# Altium integrated library NSC Switcher.IntLib: 922 symbols (part 10 of 24)
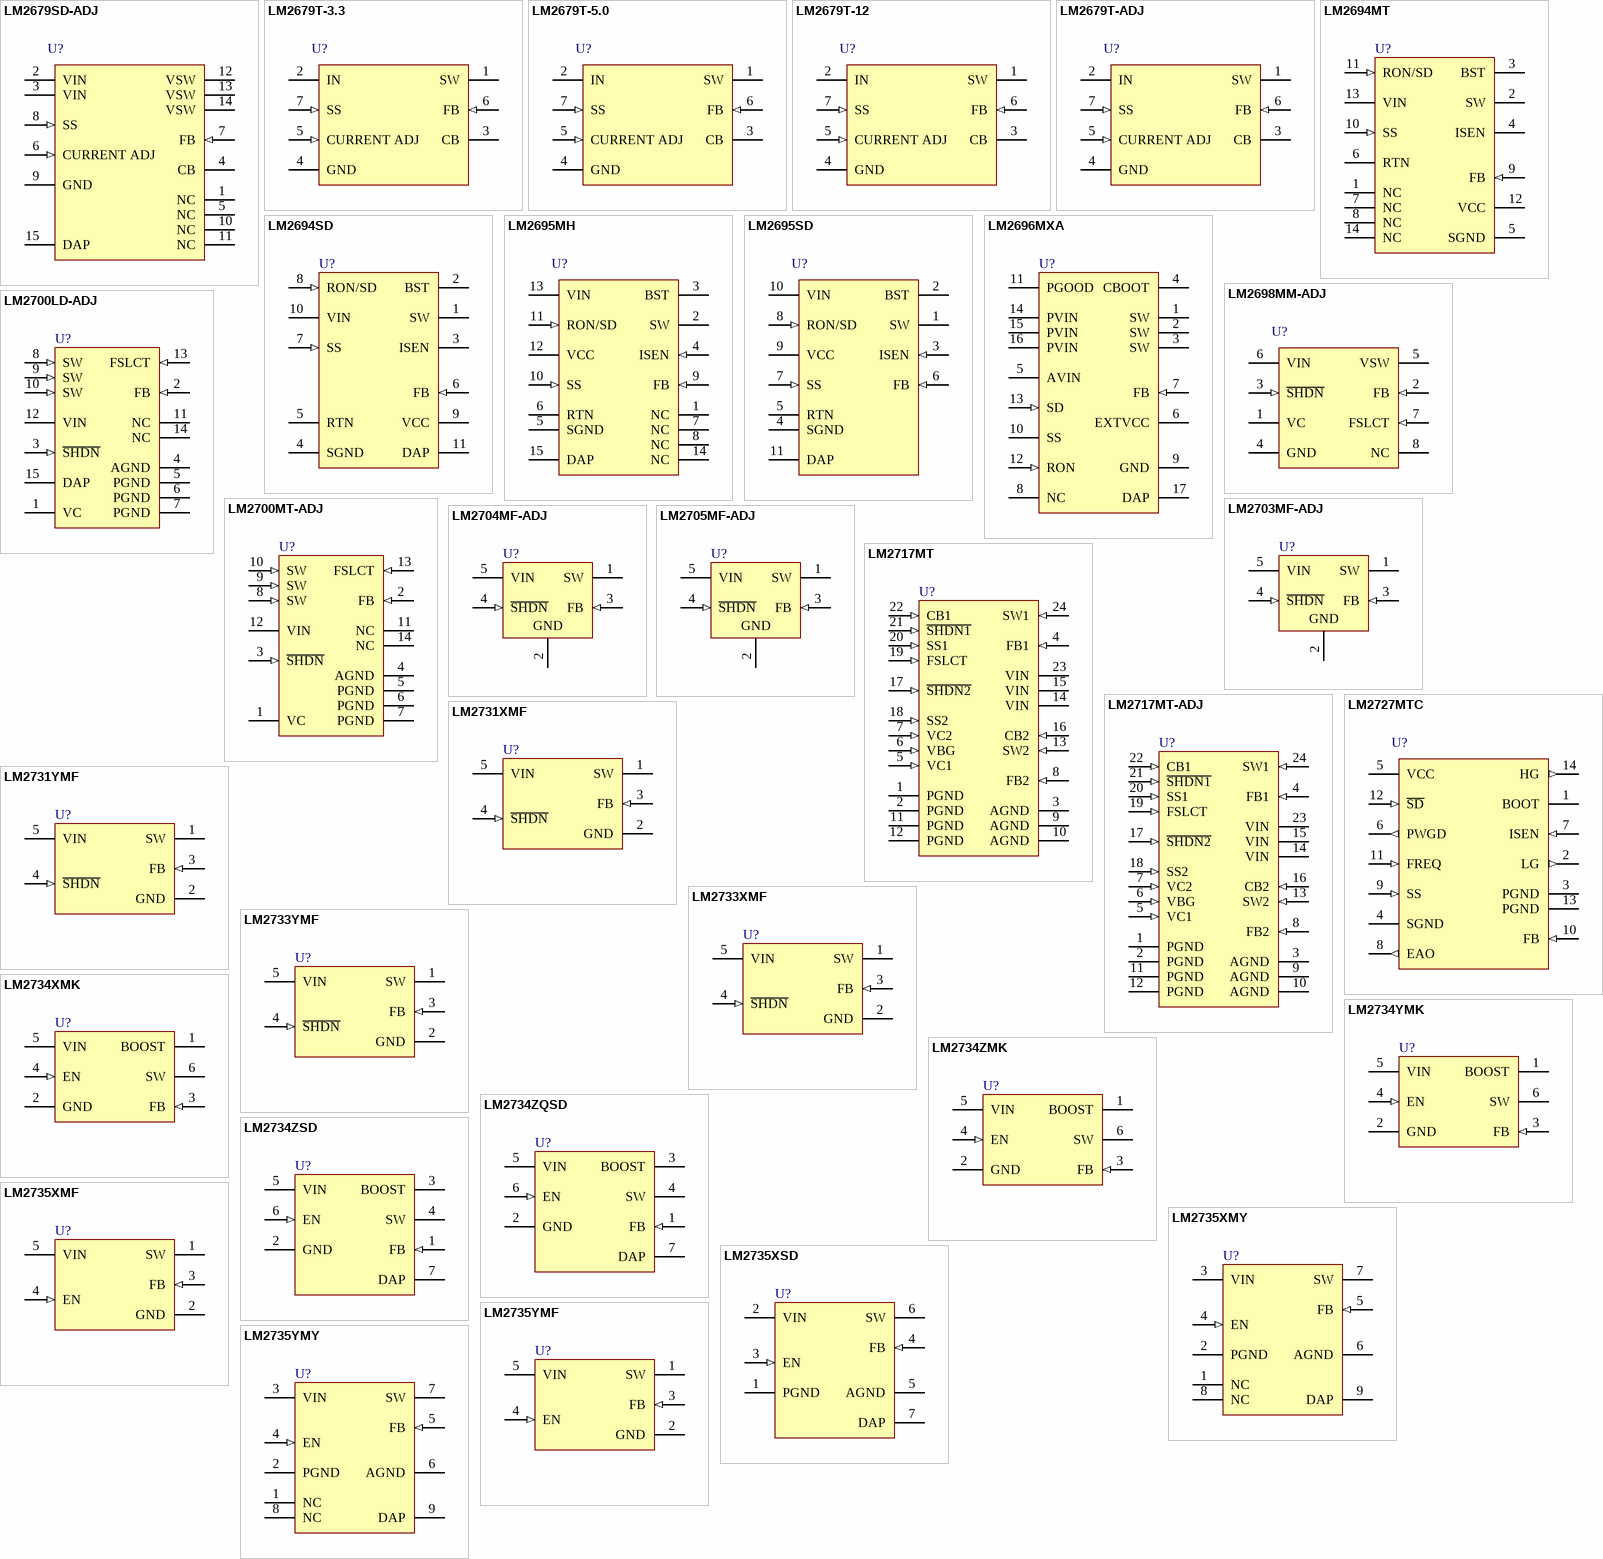
[diagram p37: symbols LM2679SD-ADJ to LM2735YMY]

## LM2734XMK
designator U?
Thin SOT23 1A Load Step-Down DC-DC Regulator; PartNumber: LM2734XMK; Manufacturer: National Semiconductor; CompType: Switcher; PackageTopMarking: SFDB*XTT; PowerWise: N; FirstPublished: 4-Dec-2008; DatasheetVersion: Jun-2008; PackageVersion: revD, Jul-2005; PackageReference: MK06A; Publisher: Altium Limited; PackageDescription: Molded TSOT, 2.97 x 1.65 x 0.87mm Body, 6 Lead, 0.95mm Pitch; RoHS: Y; PinCount: 6; DigiKeyPartNumber: LM2734XMKCT-ND; Code_JEDEC: MO-193-AA; Code_IPC: SOT26A-6; ComponentLink1Description: LM2734 Datasheet; ComponentLink1URL: http://www.national.com/ds/LM/LM2734.pdf; ComponentLink2Description: LM2734 Web Page; ComponentLink2URL: http://www.national.com/pf/LM/LM2734.html; ComponentLink3Description: MK06A Package Page; ComponentLink3URL: http://www.national.com/packaging/folders/mk06a.html
footprint MK06A_N (SOT23, 6-Leads, Body 3.0x1.7mm, Pitch 0.95mm, Lead Span 2.9mm, IPC Medium Density)
footprint MK06A_L (SOT23, 6-Leads, Body 3.0x1.7mm, Pitch 0.95mm, Lead Span 2.9mm, IPC High Density)
footprint MK06A_M (SOT23, 6-Leads, Body 3.0x1.7mm, Pitch 0.95mm, Lead Span 2.9mm, IPC Low Density)
pins: 1 BOOST, 2 GND (power), 3 FB (in), 4 EN (in), 5 VIN (power), 6 SW (power)

## LM2734YMK
designator U?
Thin SOT23 1A Load Step-Down DC-DC Regulator; PartNumber: LM2734YMK; Manufacturer: National Semiconductor; CompType: Switcher; PackageTopMarking: SFEB*XTT; PowerWise: N; FirstPublished: 4-Dec-2008; DatasheetVersion: Jun-2008; PackageVersion: revD, Jul-2005; PackageReference: MK06A; Publisher: Altium Limited; PackageDescription: Molded TSOT, 2.97 x 1.65 x 0.87mm Body, 6 Lead, 0.95mm Pitch; RoHS: O; PinCount: 6; DigiKeyPartNumber: LM2734YMKCT-ND; Code_JEDEC: MO-193-AA; Code_IPC: SOT26A-6; ComponentLink1Description: LM2734 Datasheet; ComponentLink1URL: http://www.national.com/ds/LM/LM2734.pdf; ComponentLink2Description: LM2734 Web Page; ComponentLink2URL: http://www.national.com/pf/LM/LM2734.html; ComponentLink3Description: MK06A Package Page; ComponentLink3URL: http://www.national.com/packaging/folders/mk06a.html
footprint MK06A_N (SOT23, 6-Leads, Body 3.0x1.7mm, Pitch 0.95mm, Lead Span 2.9mm, IPC Medium Density)
footprint MK06A_L (SOT23, 6-Leads, Body 3.0x1.7mm, Pitch 0.95mm, Lead Span 2.9mm, IPC High Density)
footprint MK06A_M (SOT23, 6-Leads, Body 3.0x1.7mm, Pitch 0.95mm, Lead Span 2.9mm, IPC Low Density)
pins: 1 BOOST, 2 GND (power), 3 FB (in), 4 EN (in), 5 VIN (power), 6 SW (power)

## LM2734ZMK
designator U?
Thin SOT23 1A Load Step-Down DC-DC Regulator; PartNumber: LM2734ZMK; Manufacturer: National Semiconductor; CompType: Switcher; PackageTopMarking: SFTB*XTT; PowerWise: N; FirstPublished: 4-Dec-2008; DatasheetVersion: Jun-2008; PackageVersion: revD, Jul-2005; PackageReference: MK06A; Publisher: Altium Limited; PackageDescription: Molded TSOT, 2.97 x 1.65 x 0.87mm Body, 6 Lead, 0.95mm Pitch; RoHS: Y; PinCount: 6; DigiKeyPartNumber: LM2734ZMKCT-ND; Code_JEDEC: MO-193-AA; Code_IPC: SOT26A-6; ComponentLink1Description: LM2734Z Datasheet; ComponentLink1URL: http://www.national.com/ds/LM/LM2734Z.pdf; ComponentLink2Description: LM2734Z Web Page; ComponentLink2URL: http://www.national.com/pf/LM/LM2734Z.html; ComponentLink3Description: MK06A Package Page; ComponentLink3URL: http://www.national.com/packaging/folders/mk06a.html
footprint MK06A_N (SOT23, 6-Leads, Body 3.0x1.7mm, Pitch 0.95mm, Lead Span 2.9mm, IPC Medium Density)
footprint MK06A_L (SOT23, 6-Leads, Body 3.0x1.7mm, Pitch 0.95mm, Lead Span 2.9mm, IPC High Density)
footprint MK06A_M (SOT23, 6-Leads, Body 3.0x1.7mm, Pitch 0.95mm, Lead Span 2.9mm, IPC Low Density)
pins: 1 BOOST, 2 GND (power), 3 FB (in), 4 EN (in), 5 VIN (power), 6 SW (power)

## LM2734ZQSD
designator U?
Thin SOT23 1A Load Step-Down DC-DC Regulator; PartNumber: LM2734ZQSD; Manufacturer: National Semiconductor; CompType: Switcher; PackageTopMarking: ZXYTT*L238B; PowerWise: N; FirstPublished: 4-Dec-2008; DatasheetVersion: Jun-2008; PackageVersion: revA, Jul-2003; PackageReference: SDE06A; Publisher: Altium Limited; PackageDescription: LLP, Plastic, Dual, 3 x 3 x 0.8mm Body, 6 Lead, 0.95mm Pitch, No Pullback; RoHS: Y; PinCount: 6; ComponentLink1Description: LM2734Z Datasheet; ComponentLink1URL: http://www.national.com/ds/LM/LM2734Z.pdf; ComponentLink2Description: LM2734Z Web Page; ComponentLink2URL: http://www.national.com/pf/LM/LM2734Z.html; ComponentLink3Description: SDE06A Package Page; ComponentLink3URL: http://www.national.com/packaging/folders/sde06a.html
footprint SDE06A_full (SON, 6-Leads, Body 3x3 mm, Pitch 0.95mm, Full Paste, NSC Recommended)
footprint SDE06A_quad (SON, 6-Leads, Body 3x3 mm, Pitch 0.95mm, Quad Paste, NSC Recommended)
pins: 1 FB (in), 2 GND (power), 3 BOOST, 4 SW (power), 5 VIN (power), 6 EN (in), 7 DAP (power)

## LM2734ZSD
designator U?
Thin SOT23 1A Load Step-Down DC-DC Regulator; PartNumber: LM2734ZSD; Manufacturer: National Semiconductor; CompType: Switcher; PackageTopMarking: ZXYTT*L163B; PowerWise: N; FirstPublished: 4-Dec-2008; DatasheetVersion: Jun-2008; PackageVersion: revA, Jul-2003; PackageReference: SDE06A; Publisher: Altium Limited; PackageDescription: LLP, Plastic, Dual, 3 x 3 x 0.8mm Body, 6 Lead, 0.95mm Pitch, No Pullback; RoHS: Y; PinCount: 6; DigiKeyPartNumber: LM2734ZSDCT-ND; ComponentLink1Description: LM2734Z Datasheet; ComponentLink1URL: http://www.national.com/ds/LM/LM2734Z.pdf; ComponentLink2Description: LM2734Z Web Page; ComponentLink2URL: http://www.national.com/pf/LM/LM2734Z.html; ComponentLink3Description: SDE06A Package Page; ComponentLink3URL: http://www.national.com/packaging/folders/sde06a.html
footprint SDE06A_full (SON, 6-Leads, Body 3x3 mm, Pitch 0.95mm, Full Paste, NSC Recommended)
footprint SDE06A_quad (SON, 6-Leads, Body 3x3 mm, Pitch 0.95mm, Quad Paste, NSC Recommended)
pins: 1 FB (in), 2 GND (power), 3 BOOST, 4 SW (power), 5 VIN (power), 6 EN (in), 7 DAP (power)

## LM2735XMF
designator U?
520kHz/1.6MHz - Space-Efficient Boost and SEPIC DC-DC Regulator; PartNumber: LM2735XMF; Manufacturer: National Semiconductor; CompType: Switcher; PackageTopMarking: SLEB*XTT; PowerWise: N; FirstPublished: 4-Dec-2008; DatasheetVersion: Sep-2008; PackageVersion: revD, Aug-2008; PackageReference: MF05A; Publisher: Altium Limited; PackageDescription: Molded SOT-23, .115 x .063 x .040 in Body, 5 Lead, .0375 in Pitch; RoHS: Y; PinCount: 5; DigiKeyPartNumber: LM2735XMFCT-ND; ComponentLink1Description: LM2735 Datasheet; ComponentLink1URL: http://www.national.com/ds/LM/LM2735.pdf; ComponentLink2Description: LM2735 Web Page; ComponentLink2URL: http://www.national.com/pf/LM/LM2735.html; ComponentLink3Description: MF05A Package Page; ComponentLink3URL: http://www.national.com/packaging/folders/mf05a.html
footprint MF05A_N (SOT23, 5-Leads, Body 2.9x1.6mm, Pitch 0.95mm, Lead Span 2.8mm, IPC Medium Density)
footprint MF05A_L (SOT23, 5-Leads, Body 2.9x1.6mm, Pitch 0.95mm, Lead Span 2.8mm, IPC High Density)
footprint MF05A_M (SOT23, 5-Leads, Body 2.9x1.6mm, Pitch 0.95mm, Lead Span 2.8mm, IPC Low Density)
pins: 1 SW (power), 2 GND (power), 3 FB (in), 4 EN (in), 5 VIN (power)

## LM2735XMY
designator U?
520kHz/1.6MHz - Space-Efficient Boost and SEPIC DC-DC Regulator; PartNumber: LM2735XMY; Manufacturer: National Semiconductor; CompType: Switcher; PackageTopMarking: ZXTT*SRJB; PowerWise: N; FirstPublished: 4-Dec-2008; DatasheetVersion: Sep-2008; PackageVersion: revA, Nov-2003; PackageReference: MUY08A; Publisher: Altium Limited; PackageDescription: Molded Mini-SO, Exposed Pad, .118 x .118 x .034in Body, 8 Lead, .0256in Pitch; RoHS: Y; PinCount: 8; DigiKeyPartNumber: LM2735XMYCT-ND; Code_JEDEC: MO-187-AA; ComponentLink1Description: LM2735 Datasheet; ComponentLink1URL: http://www.national.com/ds/LM/LM2735.pdf; ComponentLink2Description: LM2735 Web Page; ComponentLink2URL: http://www.national.com/pf/LM/LM2735.html; ComponentLink3Description: MUY08A Package Page; ComponentLink3URL: http://www.national.com/packaging/folders/muy08a.html
footprint MUY08A_N (TSOP, 8-Leads, Body 3x3mm, Pitch 0.65mm, Exposed Pad, IPC Medium Density)
footprint MUY08A_L (TSOP, 8-Leads, Body 3x3mm, Pitch 0.65mm, Exposed Pad, IPC High Density)
footprint MUY08A_M (TSOP, 8-Leads, Body 3x3mm, Pitch 0.65mm, Exposed Pad, IPC Low Density)
pins: 1 NC, 2 PGND (power), 3 VIN (power), 4 EN (in), 5 FB (in), 6 AGND (power), 7 SW (power), 8 NC, 9 DAP (power)

## LM2735XSD
designator U?
520kHz/1.6MHz - Space-Efficient Boost and SEPIC DC-DC Regulator; PartNumber: LM2735XSD; Manufacturer: National Semiconductor; CompType: Switcher; PackageTopMarking: ZXYTT*2735X; PowerWise: N; FirstPublished: 4-Dec-2008; DatasheetVersion: Sep-2008; PackageVersion: revA, Jul-2003; PackageReference: SDE06A; Publisher: Altium Limited; PackageDescription: LLP, Plastic, Dual, 3 x 3 x 0.8mm Body, 6 Lead, 0.95mm Pitch, No Pullback; RoHS: Y; PinCount: 6; DigiKeyPartNumber: LM2735XSDCT-ND; ComponentLink1Description: LM2735 Datasheet; ComponentLink1URL: http://www.national.com/ds/LM/LM2735.pdf; ComponentLink2Description: LM2735 Web Page; ComponentLink2URL: http://www.national.com/pf/LM/LM2735.html; ComponentLink3Description: SDE06A Package Page; ComponentLink3URL: http://www.national.com/packaging/folders/sde06a.html
footprint SDE06A_full (SON, 6-Leads, Body 3x3 mm, Pitch 0.95mm, Full Paste, NSC Recommended)
footprint SDE06A_quad (SON, 6-Leads, Body 3x3 mm, Pitch 0.95mm, Quad Paste, NSC Recommended)
pins: 1 PGND (power), 2 VIN (power), 3 EN (in), 4 FB (in), 5 AGND (power), 6 SW (power), 7 DAP (power)

## LM2735YMF
designator U?
520kHz/1.6MHz - Space-Efficient Boost and SEPIC DC-DC Regulator; PartNumber: LM2735YMF; Manufacturer: National Semiconductor; CompType: Switcher; PackageTopMarking: SLFB*XTT; PowerWise: N; FirstPublished: 4-Dec-2008; DatasheetVersion: Sep-2008; PackageVersion: revD, Aug-2008; PackageReference: MF05A; Publisher: Altium Limited; PackageDescription: Molded SOT-23, .115 x .063 x .040 in Body, 5 Lead, .0375 in Pitch; RoHS: Y; PinCount: 5; DigiKeyPartNumber: LM2735YMFCT-ND; ComponentLink1Description: LM2735 Datasheet; ComponentLink1URL: http://www.national.com/ds/LM/LM2735.pdf; ComponentLink2Description: LM2735 Web Page; ComponentLink2URL: http://www.national.com/pf/LM/LM2735.html; ComponentLink3Description: MF05A Package Page; ComponentLink3URL: http://www.national.com/packaging/folders/mf05a.html
footprint MF05A_N (SOT23, 5-Leads, Body 2.9x1.6mm, Pitch 0.95mm, Lead Span 2.8mm, IPC Medium Density)
footprint MF05A_L (SOT23, 5-Leads, Body 2.9x1.6mm, Pitch 0.95mm, Lead Span 2.8mm, IPC High Density)
footprint MF05A_M (SOT23, 5-Leads, Body 2.9x1.6mm, Pitch 0.95mm, Lead Span 2.8mm, IPC Low Density)
pins: 1 SW (power), 2 GND (power), 3 FB (in), 4 EN (in), 5 VIN (power)

## LM2735YMY
designator U?
520kHz/1.6MHz - Space-Efficient Boost and SEPIC DC-DC Regulator; PartNumber: LM2735YMY; Manufacturer: National Semiconductor; CompType: Switcher; PackageTopMarking: ZXTT*SRKB; PowerWise: N; FirstPublished: 4-Dec-2008; DatasheetVersion: Sep-2008; PackageVersion: revA, Nov-2003; PackageReference: MUY08A; Publisher: Altium Limited; PackageDescription: Molded Mini-SO, Exposed Pad, .118 x .118 x .034in Body, 8 Lead, .0256in Pitch; RoHS: Y; PinCount: 8; DigiKeyPartNumber: LM2735YMYCT-ND; Code_JEDEC: MO-187-AA; ComponentLink1Description: LM2735 Datasheet; ComponentLink1URL: http://www.national.com/ds/LM/LM2735.pdf; ComponentLink2Description: LM2735 Web Page; ComponentLink2URL: http://www.national.com/pf/LM/LM2735.html; ComponentLink3Description: MUY08A Package Page; ComponentLink3URL: http://www.national.com/packaging/folders/muy08a.html
footprint MUY08A_N (TSOP, 8-Leads, Body 3x3mm, Pitch 0.65mm, Exposed Pad, IPC Medium Density)
footprint MUY08A_L (TSOP, 8-Leads, Body 3x3mm, Pitch 0.65mm, Exposed Pad, IPC High Density)
footprint MUY08A_M (TSOP, 8-Leads, Body 3x3mm, Pitch 0.65mm, Exposed Pad, IPC Low Density)
pins: 1 NC, 2 PGND (power), 3 VIN (power), 4 EN (in), 5 FB (in), 6 AGND (power), 7 SW (power), 8 NC, 9 DAP (power)

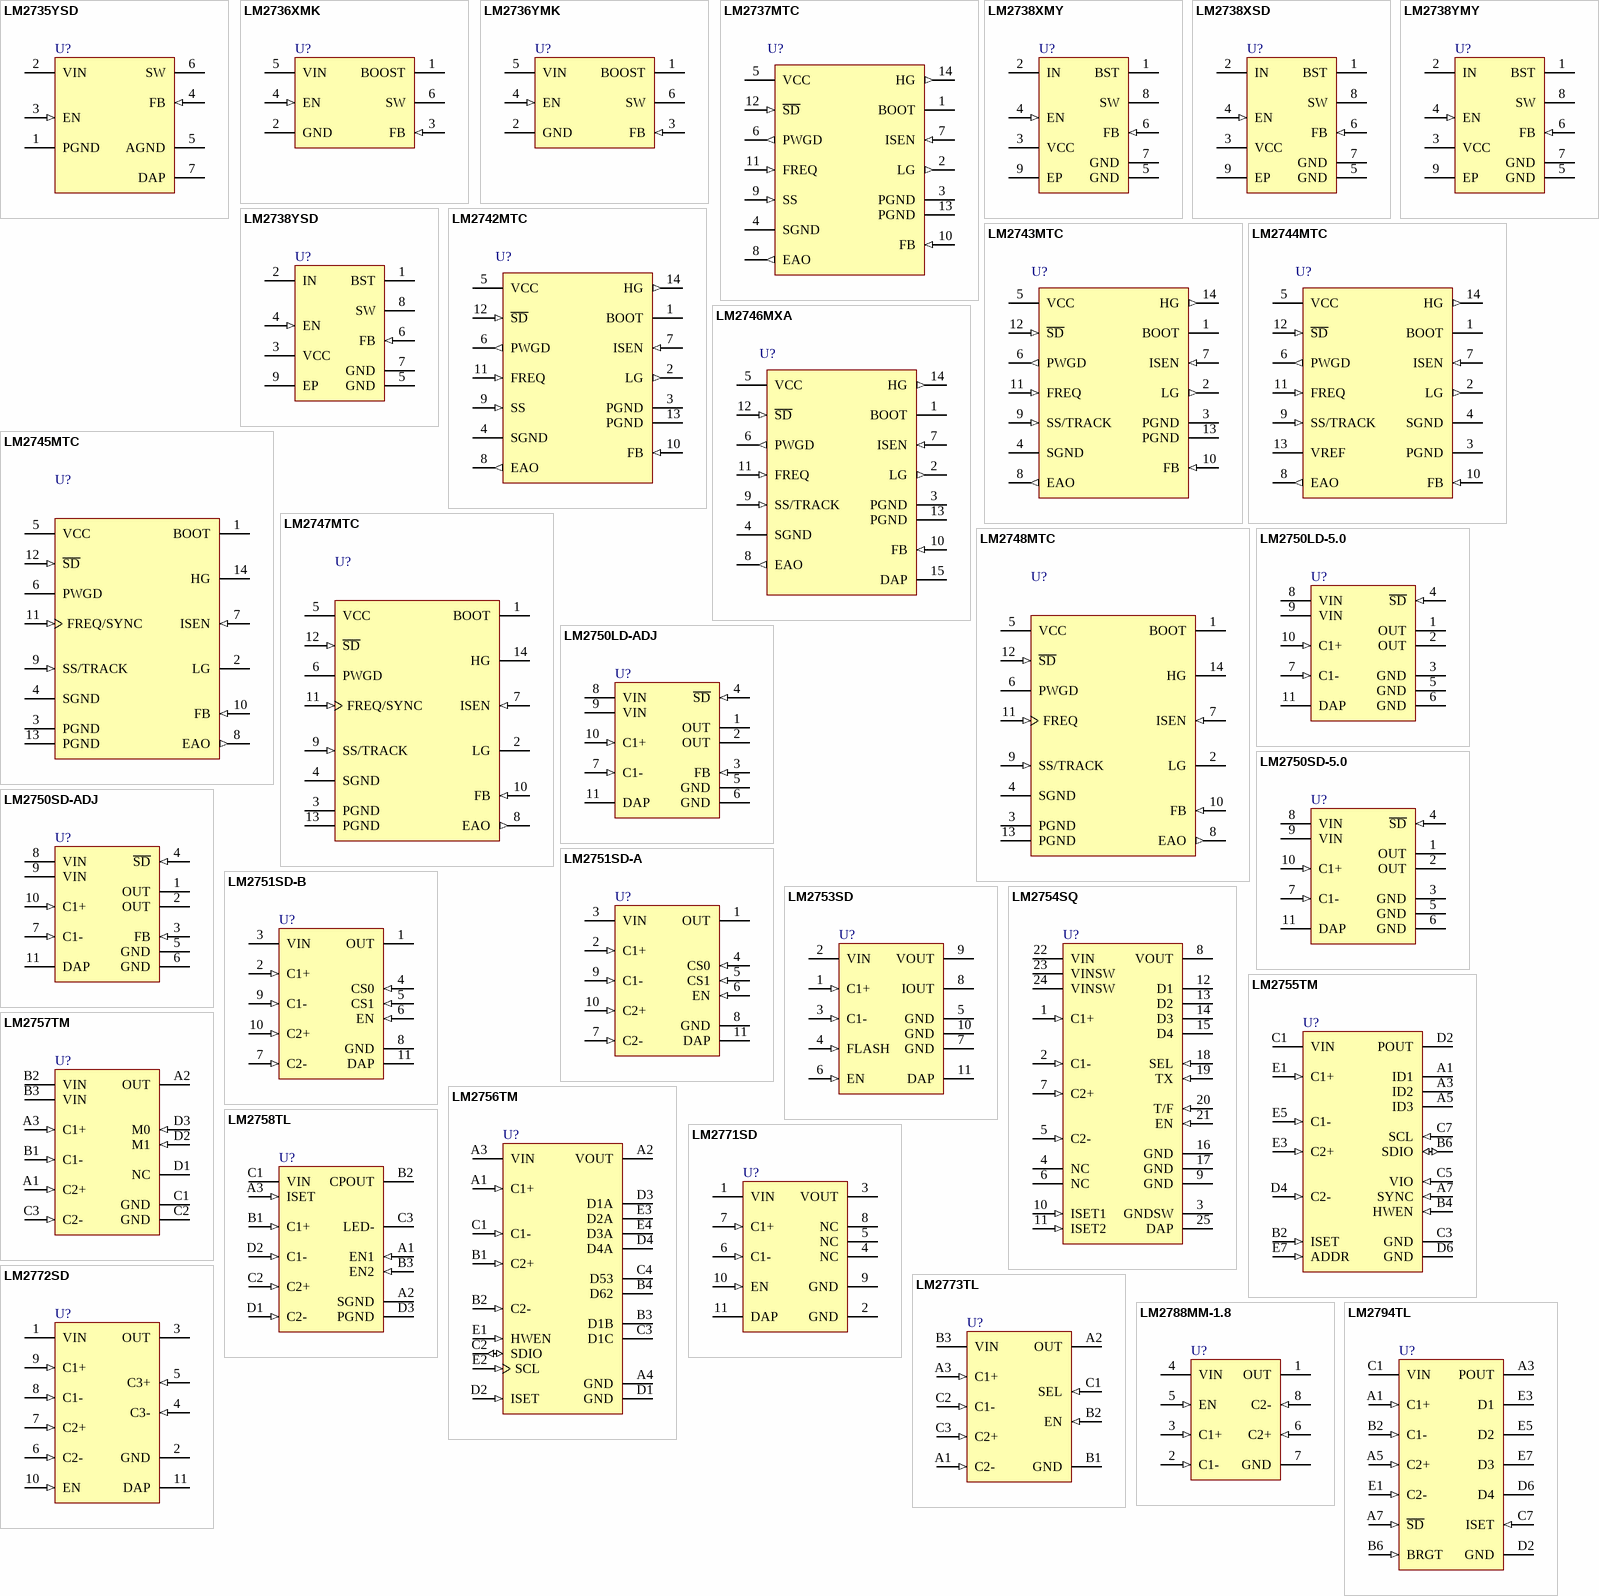
[diagram p11: symbols LM2735YSD to LM2794TL]

## LM2735YSD
designator U?
520kHz/1.6MHz - Space-Efficient Boost and SEPIC DC-DC Regulator; PartNumber: LM2735YSD; Manufacturer: National Semiconductor; CompType: Switcher; PackageTopMarking: ZXYTT*2735Y; PowerWise: N; FirstPublished: 4-Dec-2008; DatasheetVersion: Sep-2008; PackageVersion: revA, Jul-2003; PackageReference: SDE06A; Publisher: Altium Limited; PackageDescription: LLP, Plastic, Dual, 3 x 3 x 0.8mm Body, 6 Lead, 0.95mm Pitch, No Pullback; RoHS: Y; PinCount: 6; DigiKeyPartNumber: LM2735YSDCT-ND; ComponentLink1Description: LM2735 Datasheet; ComponentLink1URL: http://www.national.com/ds/LM/LM2735.pdf; ComponentLink2Description: LM2735 Web Page; ComponentLink2URL: http://www.national.com/pf/LM/LM2735.html; ComponentLink3Description: SDE06A Package Page; ComponentLink3URL: http://www.national.com/packaging/folders/sde06a.html
footprint SDE06A_full (SON, 6-Leads, Body 3x3 mm, Pitch 0.95mm, Full Paste, NSC Recommended)
footprint SDE06A_quad (SON, 6-Leads, Body 3x3 mm, Pitch 0.95mm, Quad Paste, NSC Recommended)
pins: 1 PGND (power), 2 VIN (power), 3 EN (in), 4 FB (in), 5 AGND (power), 6 SW (power), 7 DAP (power)

## LM2736XMK
designator U?
Thin SOT23 750mA Load Step-Down DC-DC Regulator; PartNumber: LM2736XMK; Manufacturer: National Semiconductor; CompType: Switcher; PackageTopMarking: SHAB*XTT; PowerWise: N; FirstPublished: 4-Dec-2008; DatasheetVersion: Jan-2005; PackageVersion: revD, Jul-2005; PackageReference: MK06A; Publisher: Altium Limited; PackageDescription: Molded TSOT, 2.97 x 1.65 x 0.87mm Body, 6 Lead, 0.95mm Pitch; RoHS: Y; PinCount: 6; DigiKeyPartNumber: LM2736XMKCT-ND; Code_JEDEC: MO-193-AA; Code_IPC: SOT26A-6; ComponentLink1Description: LM2736 Datasheet; ComponentLink1URL: http://www.national.com/ds/LM/LM2736.pdf; ComponentLink2Description: LM2736 Web Page; ComponentLink2URL: http://www.national.com/pf/LM/LM2736.html; ComponentLink3Description: MK06A Package Page; ComponentLink3URL: http://www.national.com/packaging/folders/mk06a.html
footprint MK06A_N (SOT23, 6-Leads, Body 3.0x1.7mm, Pitch 0.95mm, Lead Span 2.9mm, IPC Medium Density)
footprint MK06A_L (SOT23, 6-Leads, Body 3.0x1.7mm, Pitch 0.95mm, Lead Span 2.9mm, IPC High Density)
footprint MK06A_M (SOT23, 6-Leads, Body 3.0x1.7mm, Pitch 0.95mm, Lead Span 2.9mm, IPC Low Density)
pins: 1 BOOST, 2 GND (power), 3 FB (in), 4 EN (in), 5 VIN (power), 6 SW (power)

## LM2736YMK
designator U?
Thin SOT23 750mA Load Step-Down DC-DC Regulator; PartNumber: LM2736YMK; Manufacturer: National Semiconductor; CompType: Switcher; PackageTopMarking: SHBB*XTT; PowerWise: N; FirstPublished: 4-Dec-2008; DatasheetVersion: Jan-2005; PackageVersion: revD, Jul-2005; PackageReference: MK06A; Publisher: Altium Limited; PackageDescription: Molded TSOT, 2.97 x 1.65 x 0.87mm Body, 6 Lead, 0.95mm Pitch; RoHS: O; PinCount: 6; DigiKeyPartNumber: LM2736YMKCT-ND; Code_JEDEC: MO-193-AA; Code_IPC: SOT26A-6; ComponentLink1Description: LM2736 Datasheet; ComponentLink1URL: http://www.national.com/ds/LM/LM2736.pdf; ComponentLink2Description: LM2736 Web Page; ComponentLink2URL: http://www.national.com/pf/LM/LM2736.html; ComponentLink3Description: MK06A Package Page; ComponentLink3URL: http://www.national.com/packaging/folders/mk06a.html
footprint MK06A_N (SOT23, 6-Leads, Body 3.0x1.7mm, Pitch 0.95mm, Lead Span 2.9mm, IPC Medium Density)
footprint MK06A_L (SOT23, 6-Leads, Body 3.0x1.7mm, Pitch 0.95mm, Lead Span 2.9mm, IPC High Density)
footprint MK06A_M (SOT23, 6-Leads, Body 3.0x1.7mm, Pitch 0.95mm, Lead Span 2.9mm, IPC Low Density)
pins: 1 BOOST, 2 GND (power), 3 FB (in), 4 EN (in), 5 VIN (power), 6 SW (power)

## LM2737MTC
designator U?
N-Channel FET Synchronous Buck Regulator Controller for Low Output Voltages; PartNumber: LM2737MTC; Manufacturer: National Semiconductor; CompType: Switcher; PackageTopMarking: NSZXYTT*2737*MTC; PowerWise: N; FirstPublished: 4-Dec-2008; DatasheetVersion: Jun-2003; PackageVersion: revD, Jun-2003; PackageReference: MTC14; Publisher: Altium Limited; PackageDescription: Molded TSSOP, JEDEC, 5 x 4.4 x 0.9mm Body, 14 Lead, 0.65mm Pitch; RoHS: O; PinCount: 14; DigiKeyPartNumber: LM2737MTC-ND; Code_JEDEC: MO-153-AB-1; ComponentLink1Description: LM2737 Datasheet; ComponentLink1URL: http://www.national.com/ds/LM/LM2737.pdf; ComponentLink2Description: LM2737 Web Page; ComponentLink2URL: http://www.national.com/pf/LM/LM2737.html; ComponentLink3Description: MTC14 Package Page; ComponentLink3URL: http://www.national.com/packaging/folders/mtc14.html
footprint MTC14_N (TSOP, 14-Leads, Body 5x4.4mm, Pitch 0.65mm, IPC Medium Density)
footprint MTC14_L (TSOP, 14-Leads, Body 5x4.4mm, Pitch 0.65mm, IPC High Density)
footprint MTC14_M (TSOP, 14-Leads, Body 5x4.4mm, Pitch 0.65mm, IPC Low Density)
pins: 1 BOOT, 2 LG (out), 3 PGND (power), 4 SGND (power), 5 VCC (power), 6 PWGD (out), 7 ISEN (in), 8 EAO (out), 9 SS (in), 10 FB (in), 11 FREQ (in), 12 ~{SD} (in), 13 PGND (power), 14 HG (out)

## LM2738XMY
designator U?
550kHz/1.6MHz 1.5A Step-Down DC-DC Switching Regulator; PartNumber: LM2738XMY; Manufacturer: National Semiconductor; CompType: Switcher; PackageTopMarking: ZXTT*STDB; FirstPublished: 4-Dec-2008; DatasheetVersion: Apr-2008; PackageVersion: revA, Nov-2003; PackageReference: MUY08A; Publisher: Altium Limited; PackageDescription: Molded Mini-SO, Exposed Pad, .118 x .118 x .034in Body, 8 Lead, .0256in Pitch; RoHS: Y; PinCount: 8; DigiKeyPartNumber: LM2738XMYCT-ND; Code_JEDEC: MO-187-AA; ComponentLink1Description: LM2738 Datasheet; ComponentLink1URL: http://www.national.com/ds/LM/LM2738.pdf; ComponentLink2Description: LM2738 Web Page; ComponentLink2URL: http://www.national.com/pf/LM/LM2738.html; ComponentLink3Description: MUY08A Package Drawing; ComponentLink3URL: http://www.national.com/packaging/folders/muy08a.html
footprint MUY08A_N (TSOP, 8-Leads, Body 3x3mm, Pitch 0.65mm, Exposed Pad, IPC Medium Density)
footprint MUY08A_L (TSOP, 8-Leads, Body 3x3mm, Pitch 0.65mm, Exposed Pad, IPC High Density)
footprint MUY08A_M (TSOP, 8-Leads, Body 3x3mm, Pitch 0.65mm, Exposed Pad, IPC Low Density)
pins: 1 BST, 2 IN (power), 3 VCC (power), 4 EN (in), 5 GND (power), 6 FB (in), 7 GND (power), 8 SW (power), 9 EP (power)

## LM2738XSD
designator U?
550kHz/1.6MHz 1.5A Step-Down DC-DC Switching Regulator; PartNumber: LM2738XSD; Manufacturer: National Semiconductor; CompType: Switcher; PackageTopMarking: ZXYTT*L237B; FirstPublished: 4-Dec-2008; DatasheetVersion: Apr-2008; PackageVersion: revA, Aug-2003; PackageReference: SDA08A; Publisher: Altium Limited; PackageDescription: LLP, Plastic, Dual, 3 x 3 x 0.8mm Body, 8 Lead, 0.5mm Pitch, No Pullback; RoHS: Y; PinCount: 8; DigiKeyPartNumber: LM2738XSDCT-ND; ComponentLink1Description: LM2738 Datasheet; ComponentLink1URL: http://www.national.com/ds/LM/LM2738.pdf; ComponentLink2Description: LM2738 Web Page; ComponentLink2URL: http://www.national.com/pf/LM/LM2738.html; ComponentLink3Description: SDA08A Package Drawing; ComponentLink3URL: http://www.national.com/packaging/folders/sda08a.html
footprint SDA08A (SON, 8-Leads, Body 3x3mm, Pitch 0.5mm, NSC Recommended)
pins: 1 BST, 2 IN (power), 3 VCC (power), 4 EN (in), 5 GND (power), 6 FB (in), 7 GND (power), 8 SW (power), 9 EP (power)

## LM2738YMY
designator U?
550kHz/1.6MHz 1.5A Step-Down DC-DC Switching Regulator; PartNumber: LM2738YMY; Manufacturer: National Semiconductor; CompType: Switcher; PackageTopMarking: ZXTT*SJBB; FirstPublished: 4-Dec-2008; DatasheetVersion: Apr-2008; PackageVersion: revA, Nov-2003; PackageReference: MUY08A; Publisher: Altium Limited; PackageDescription: Molded Mini-SO, Exposed Pad, .118 x .118 x .034in Body, 8 Lead, .0256in Pitch; RoHS: Y; PinCount: 8; DigiKeyPartNumber: LM2738YMYCT-ND; Code_JEDEC: MO-187-AA; ComponentLink1Description: LM2738 Datasheet; ComponentLink1URL: http://www.national.com/ds/LM/LM2738.pdf; ComponentLink2Description: LM2738 Web Page; ComponentLink2URL: http://www.national.com/pf/LM/LM2738.html; ComponentLink3Description: MUY08A Package Drawing; ComponentLink3URL: http://www.national.com/packaging/folders/muy08a.html
footprint MUY08A_N (TSOP, 8-Leads, Body 3x3mm, Pitch 0.65mm, Exposed Pad, IPC Medium Density)
footprint MUY08A_L (TSOP, 8-Leads, Body 3x3mm, Pitch 0.65mm, Exposed Pad, IPC High Density)
footprint MUY08A_M (TSOP, 8-Leads, Body 3x3mm, Pitch 0.65mm, Exposed Pad, IPC Low Density)
pins: 1 BST, 2 IN (power), 3 VCC (power), 4 EN (in), 5 GND (power), 6 FB (in), 7 GND (power), 8 SW (power), 9 EP (power)

## LM2738YSD
designator U?
550kHz/1.6MHz 1.5A Step-Down DC-DC Switching Regulator; PartNumber: LM2738YSD; Manufacturer: National Semiconductor; CompType: Switcher; PackageTopMarking: ZXYTT*L174B; FirstPublished: 4-Dec-2008; DatasheetVersion: Apr-2008; PackageVersion: revA, Aug-2003; PackageReference: SDA08A; Publisher: Altium Limited; PackageDescription: LLP, Plastic, Dual, 3 x 3 x 0.8mm Body, 8 Lead, 0.5mm Pitch, No Pullback; RoHS: Y; PinCount: 8; DigiKeyPartNumber: LM2738YSDCT-ND; ComponentLink1Description: LM2738 Datasheet; ComponentLink1URL: http://www.national.com/ds/LM/LM2738.pdf; ComponentLink2Description: LM2738 Web Page; ComponentLink2URL: http://www.national.com/pf/LM/LM2738.html; ComponentLink3Description: SDA08A Package Drawing; ComponentLink3URL: http://www.national.com/packaging/folders/sda08a.html
footprint SDA08A (SON, 8-Leads, Body 3x3mm, Pitch 0.5mm, NSC Recommended)
pins: 1 BST, 2 IN (power), 3 VCC (power), 4 EN (in), 5 GND (power), 6 FB (in), 7 GND (power), 8 SW (power), 9 EP (power)

## LM2742MTC
designator U?
N-Channel FET Synchronous Buck Regulator Controller for Low Output Voltages; PartNumber: LM2742MTC; Manufacturer: National Semiconductor; CompType: Switcher; PackageTopMarking: NSZXYTT*2742*MTC; PowerWise: Y; FirstPublished: 4-Dec-2008; DatasheetVersion: Oct-2007; PackageVersion: revD, Jun-2003; PackageReference: MTC14; Publisher: Altium Limited; PackageDescription: Molded TSSOP, JEDEC, 5 x 4.4 x 0.9mm Body, 14 Lead, 0.65mm Pitch; RoHS: Y; PinCount: 14; DigiKeyPartNumber: LM2742MTC-ND; Code_JEDEC: MO-153-AB-1; ComponentLink1Description: LM2742 Datasheet; ComponentLink1URL: http://www.national.com/ds/LM/LM2742.pdf; ComponentLink2Description: LM2742 Web Page; ComponentLink2URL: http://www.national.com/pf/LM/LM2742.html; ComponentLink3Description: MTC14 Package Page; ComponentLink3URL: http://www.national.com/packaging/folders/mtc14.html
footprint MTC14_N (TSOP, 14-Leads, Body 5x4.4mm, Pitch 0.65mm, IPC Medium Density)
footprint MTC14_L (TSOP, 14-Leads, Body 5x4.4mm, Pitch 0.65mm, IPC High Density)
footprint MTC14_M (TSOP, 14-Leads, Body 5x4.4mm, Pitch 0.65mm, IPC Low Density)
pins: 1 BOOT, 2 LG (out), 3 PGND (power), 4 SGND (power), 5 VCC (power), 6 PWGD (out), 7 ISEN (in), 8 EAO (out), 9 SS (in), 10 FB (in), 11 FREQ (in), 12 ~{SD} (in), 13 PGND (power), 14 HG (out)

## LM2743MTC
designator U?
Low Voltage N-Channel MOSFET Synchronous Buck Regulator Controller; PartNumber: LM2743MTC; Manufacturer: National Semiconductor; CompType: Switcher; PackageTopMarking: NSZXYTT*2743*MTC; PowerWise: Y; FirstPublished: 4-Dec-2008; DatasheetVersion: Feb-2005; PackageVersion: revD, Jun-2003; PackageReference: MTC14; Publisher: Altium Limited; PackageDescription: Molded TSSOP, JEDEC, 5 x 4.4 x 0.9mm Body, 14 Lead, 0.65mm Pitch; RoHS: O; PinCount: 14; DigiKeyPartNumber: LM2743MTC-ND; Code_JEDEC: MO-153-AB-1; ComponentLink1Description: LM2743 Datasheet; ComponentLink1URL: http://www.national.com/ds/LM/LM2743.pdf; ComponentLink2Description: LM2743 Web Page; ComponentLink2URL: http://www.national.com/pf/LM/LM2743.html; ComponentLink3Description: MTC14 Package Page; ComponentLink3URL: http://www.national.com/packaging/folders/mtc14.html
footprint MTC14_N (TSOP, 14-Leads, Body 5x4.4mm, Pitch 0.65mm, IPC Medium Density)
footprint MTC14_L (TSOP, 14-Leads, Body 5x4.4mm, Pitch 0.65mm, IPC High Density)
footprint MTC14_M (TSOP, 14-Leads, Body 5x4.4mm, Pitch 0.65mm, IPC Low Density)
pins: 1 BOOT, 2 LG (out), 3 PGND (power), 4 SGND (power), 5 VCC (power), 6 PWGD (out), 7 ISEN (in), 8 EAO (out), 9 SS/TRACK (in), 10 FB (in), 11 FREQ (in), 12 ~{SD} (in), 13 PGND (power), 14 HG (out)

## LM2744MTC
designator U?
Low Voltage N-Channel MOSFET Synchronous Buck Regulator Controller with External Reference; PartNumber: LM2744MTC; Manufacturer: National Semiconductor; CompType: Switcher; PackageTopMarking: NSZXYTT*2744*MTC; PowerWise: Y; FirstPublished: 4-Dec-2008; DatasheetVersion: Apr-2007; PackageVersion: revD, Jun-2003; PackageReference: MTC14; Publisher: Altium Limited; PackageDescription: Molded TSSOP, JEDEC, 5 x 4.4 x 0.9mm Body, 14 Lead, 0.65mm Pitch; RoHS: Y; PinCount: 14; DigiKeyPartNumber: LM2744MTC-ND; Code_JEDEC: MO-153-AB-1; ComponentLink1Description: LM2744 Datasheet; ComponentLink1URL: http://www.national.com/ds/LM/LM2744.pdf; ComponentLink2Description: LM2744 Web Page; ComponentLink2URL: http://www.national.com/pf/LM/LM2744.html; ComponentLink3Description: MTC14 Package Page; ComponentLink3URL: http://www.national.com/packaging/folders/mtc14.html
footprint MTC14_N (TSOP, 14-Leads, Body 5x4.4mm, Pitch 0.65mm, IPC Medium Density)
footprint MTC14_L (TSOP, 14-Leads, Body 5x4.4mm, Pitch 0.65mm, IPC High Density)
footprint MTC14_M (TSOP, 14-Leads, Body 5x4.4mm, Pitch 0.65mm, IPC Low Density)
pins: 1 BOOT, 2 LG (out), 3 PGND (power), 4 SGND (power), 5 VCC (power), 6 PWGD (out), 7 ISEN (in), 8 EAO (out), 9 SS/TRACK (in), 10 FB (in), 11 FREQ (in), 12 ~{SD} (in), 13 VREF (power), 14 HG (out)

## LM2745MTC
designator U?
Synchronous Buck Controller with Pre-bias Startup, and Optional Clock Synchronization; PartNumber: LM2745MTC; Manufacturer: National Semiconductor; CompType: Switcher; PackageTopMarking: NSUZXYTT*2745*MTC; PowerWise: Y; FirstPublished: 4-Dec-2008; DatasheetVersion: May-2005; PackageVersion: revD, Jun-2003; PackageReference: MTC14; Publisher: Altium Limited; PackageDescription: Molded TSSOP, JEDEC, 5 x 4.4 x 0.9mm Body, 14 Lead, 0.65mm Pitch; RoHS: O; PinCount: 14; DigiKeyPartNumber: LM2745MTC-ND; Code_JEDEC: MO-153-AB-1; ComponentLink1Description: LM2745 Datasheet; ComponentLink1URL: http://www.national.com/ds/LM/LM2745.pdf; ComponentLink2Description: LM2745 Web Page; ComponentLink2URL: http://www.national.com/pf/LM/LM2745.html; ComponentLink3Description: MTC14 Package Page; ComponentLink3URL: http://www.national.com/packaging/folders/mtc14.html
footprint MTC14_N (TSOP, 14-Leads, Body 5x4.4mm, Pitch 0.65mm, IPC Medium Density)
footprint MTC14_L (TSOP, 14-Leads, Body 5x4.4mm, Pitch 0.65mm, IPC High Density)
footprint MTC14_M (TSOP, 14-Leads, Body 5x4.4mm, Pitch 0.65mm, IPC Low Density)
pins: 1 BOOT, 2 LG (power), 3 PGND (power), 4 SGND (power), 5 VCC (power), 6 PWGD (oc), 7 ISEN (in), 8 EAO (out), 9 SS/TRACK (in), 10 FB (in), 11 FREQ/SYNC (in), 12 ~{SD} (in), 13 PGND (power), 14 HG (power)

## LM2746MXA
designator U?
Low Voltage N-Channel MOSFET Synchronous Buck Regulator Controller; PartNumber: LM2746MXA; Manufacturer: National Semiconductor; CompType: Switcher; PackageTopMarking: NSUZXYTT*L2746*MX; PowerWise: Y; FirstPublished: 4-Dec-2008; DatasheetVersion: May-2005; PackageVersion: revA, Feb-2003; PackageReference: MXA14A; Publisher: Altium Limited; PackageDescription: Molded TSSOP, JEDEC, Exposed Pad, 5.0 x 4.4 x 0.9mm Body, 14 Lead, 0.65mm Pitch; RoHS: Y; PinCount: 14; DigiKeyPartNumber: LM2746MXA-ND; Code_JEDEC: MO-153-ABT-1; ComponentLink1Description: LM2746 Datasheet; ComponentLink1URL: http://www.national.com/ds/LM/LM2746.pdf; ComponentLink2Description: LM2746 Web Page; ComponentLink2URL: http://www.national.com/pf/LM/LM2746.html; ComponentLink3Description: MXA14A Package Page; ComponentLink3URL: http://www.national.com/packaging/folders/mxa14a.html
footprint MXA14A_N (TSOP, 14-Leads, Body 5x4.4mm, Pitch 0.65mm, Exposed Pad, IPC Medium Density)
footprint MXA14A_L (TSOP, 14-Leads, Body 5x4.4mm, Pitch 0.65mm, Exposed Pad, IPC High Density)
footprint MXA14A_M (TSOP, 14-Leads, Body 5x4.4mm, Pitch 0.65mm, Exposed Pad, IPC Low Density)
pins: 1 BOOT, 2 LG (out), 3 PGND (power), 4 SGND (power), 5 VCC (power), 6 PWGD (out), 7 ISEN (in), 8 EAO (out), 9 SS/TRACK (in), 10 FB (in), 11 FREQ (in), 12 ~{SD} (in), 13 PGND (power), 14 HG (out), 15 DAP (power)

## LM2747MTC
designator U?
Synchronous Buck Controller with Pre-bias Startup, and Optional Clock Synchronization; PartNumber: LM2747MTC; Manufacturer: National Semiconductor; CompType: Switcher; PackageTopMarking: NSUZXYTT*2747*MTC; PowerWise: Y; FirstPublished: 4-Dec-2008; DatasheetVersion: Mar-2006; PackageVersion: revD, Jun-2003; PackageReference: MTC14; Publisher: Altium Limited; PackageDescription: Molded TSSOP, JEDEC, 5 x 4.4 x 0.9mm Body, 14 Lead, 0.65mm Pitch; RoHS: Y; PinCount: 14; DigiKeyPartNumber: LM2747MTC-ND; Code_JEDEC: MO-153-AB-1; ComponentLink1Description: LM2747 Datasheet; ComponentLink1URL: http://www.national.com/ds/LM/LM2747.pdf; ComponentLink2Description: LM2747 Web Page; ComponentLink2URL: http://www.national.com/pf/LM/LM2747.html; ComponentLink3Description: MTC14 Package Page; ComponentLink3URL: http://www.national.com/packaging/folders/mtc14.html
footprint MTC14_N (TSOP, 14-Leads, Body 5x4.4mm, Pitch 0.65mm, IPC Medium Density)
footprint MTC14_L (TSOP, 14-Leads, Body 5x4.4mm, Pitch 0.65mm, IPC High Density)
footprint MTC14_M (TSOP, 14-Leads, Body 5x4.4mm, Pitch 0.65mm, IPC Low Density)
pins: 1 BOOT, 2 LG (power), 3 PGND (power), 4 SGND (power), 5 VCC (power), 6 PWGD (oc), 7 ISEN (in), 8 EAO (out), 9 SS/TRACK (in), 10 FB (in), 11 FREQ/SYNC (in), 12 ~{SD} (in), 13 PGND (power), 14 HG (power)

## LM2748MTC
designator U?
Synchronous Buck Controller with Pre-bias Startup, and Optional Clock Synchronization; PartNumber: LM2748MTC; Manufacturer: National Semiconductor; CompType: Switcher; PackageTopMarking: NSUZXYTT*2748*MTC; PowerWise: Y; FirstPublished: 4-Dec-2008; DatasheetVersion: May-2005; PackageVersion: revD, Jun-2003; PackageReference: MTC14; Publisher: Altium Limited; PackageDescription: Molded TSSOP, JEDEC, 5 x 4.4 x 0.9mm Body, 14 Lead, 0.65mm Pitch; RoHS: Y; PinCount: 14; DigiKeyPartNumber: LM2748MTC-ND; Code_JEDEC: MO-153-AB-1; ComponentLink1Description: LM2748 Datasheet; ComponentLink1URL: http://www.national.com/ds/LM/LM2748.pdf; ComponentLink2Description: LM2748 Web Page; ComponentLink2URL: http://www.national.com/pf/LM/LM2748.html; ComponentLink3Description: MTC14 Package Page; ComponentLink3URL: http://www.national.com/packaging/folders/mtc14.html
footprint MTC14_N (TSOP, 14-Leads, Body 5x4.4mm, Pitch 0.65mm, IPC Medium Density)
footprint MTC14_L (TSOP, 14-Leads, Body 5x4.4mm, Pitch 0.65mm, IPC High Density)
footprint MTC14_M (TSOP, 14-Leads, Body 5x4.4mm, Pitch 0.65mm, IPC Low Density)
pins: 1 BOOT, 2 LG (power), 3 PGND (power), 4 SGND (power), 5 VCC (power), 6 PWGD (oc), 7 ISEN (in), 8 EAO (out), 9 SS/TRACK (in), 10 FB (in), 11 FREQ (in), 12 ~{SD} (in), 13 PGND (power), 14 HG (power)

## LM2750LD-5.0
designator U?
Low Noise Regulator Switched Capacitor Boost Regulator; PartNumber: LM2750LD-5.0; Manufacturer: National Semiconductor; CompType: Switcher; PackageTopMarking: ZXYTT*S002B; FirstPublished: 4-Dec-2008; DatasheetVersion: Dec-2005; PackageVersion: revB, Jan-2003; PackageReference: LDA10A; Publisher: Altium Limited; PackageDescription: LLP, Plastic, Dual, 3 x 3 x 0.75mm Body, 10 Lead, 0.5mm Pitch; RoHS: O; PinCount: 10; DigiKeyPartNumber: LM2750LD-5.0CT-ND; ComponentLink1Description: LM2750 Datasheet; ComponentLink1URL: http://www.national.com/ds/LM/LM2750.pdf; ComponentLink2Description: LM2750 Web Page; ComponentLink2URL: http://www.national.com/pf/LM/LM2750.html; ComponentLink3Description: LDA10A Package Drawing; ComponentLink3URL: http://www.national.com/packaging/folders/lda10a.html
footprint LDA10A (PSON, 10-Leads, Body 3x3mm, Pitch 0.5mm, NSC Recommended)
pins: 1 OUT (power), 2 OUT (power), 3 GND (power), 4 ~{SD} (in), 5 GND (power), 6 GND (power), 7 C1- (in), 8 VIN (power), 9 VIN (power), 10 C1+ (in), 11 DAP (power)

## LM2750LD-ADJ
designator U?
Low Noise Regulator Switched Capacitor Boost Regulator; PartNumber: LM2750LD-ADJ; Manufacturer: National Semiconductor; CompType: Switcher; PackageTopMarking: ZXYTT*S003B; FirstPublished: 4-Dec-2008; DatasheetVersion: Dec-2005; PackageVersion: revB, Jan-2003; PackageReference: LDA10A; Publisher: Altium Limited; PackageDescription: LLP, Plastic, Dual, 3 x 3 x 0.75mm Body, 10 Lead, 0.5mm Pitch; RoHS: O; PinCount: 10; DigiKeyPartNumber: LM2750LD-ADJCT-ND; ComponentLink1Description: LM2750 Datasheet; ComponentLink1URL: http://www.national.com/ds/LM/LM2750.pdf; ComponentLink2Description: LM2750 Web Page; ComponentLink2URL: http://www.national.com/pf/LM/LM2750.html; ComponentLink3Description: LDA10A Package Drawing; ComponentLink3URL: http://www.national.com/packaging/folders/lda10a.html
footprint LDA10A (PSON, 10-Leads, Body 3x3mm, Pitch 0.5mm, NSC Recommended)
pins: 1 OUT (power), 2 OUT (power), 3 FB (in), 4 ~{SD} (in), 5 GND (power), 6 GND (power), 7 C1- (in), 8 VIN (power), 9 VIN (power), 10 C1+ (in), 11 DAP (power)

## LM2750SD-5.0
designator U?
Low Noise Regulator Switched Capacitor Boost Regulator; PartNumber: LM2750SD-5.0; Manufacturer: National Semiconductor; CompType: Switcher; PackageTopMarking: ZXYTT*S005B; FirstPublished: 4-Dec-2008; DatasheetVersion: Dec-2005; PackageVersion: revA, Oct-2003; PackageReference: SDA10A; Publisher: Altium Limited; PackageDescription: LLP, Plastic, Dual, 3 x 3 x 0.8mm Body, 10 Lead, 0.5mm Pitch, No Pullback; RoHS: O; PinCount: 10; DigiKeyPartNumber: LM2750SD-5.0CT-ND; ComponentLink1Description: LM2750 Datasheet; ComponentLink1URL: http://www.national.com/ds/LM/LM2750.pdf; ComponentLink2Description: LM2750 Web Page; ComponentLink2URL: http://www.national.com/pf/LM/LM2750.html; ComponentLink3Description: SDA10A Package Drawing; ComponentLink3URL: http://www.national.com/packaging/folders/sda10a.html
footprint SDA10A (SON, 10-Leads, Body 3x3 mm, Pitch 0.5mm, NSC Recommended)
pins: 1 OUT (power), 2 OUT (power), 3 GND (power), 4 ~{SD} (in), 5 GND (power), 6 GND (power), 7 C1- (in), 8 VIN (power), 9 VIN (power), 10 C1+ (in), 11 DAP (power)

## LM2750SD-ADJ
designator U?
Low Noise Regulator Switched Capacitor Boost Regulator; PartNumber: LM2750SD-ADJ; Manufacturer: National Semiconductor; CompType: Switcher; PackageTopMarking: ZXYTT*S004B; FirstPublished: 4-Dec-2008; DatasheetVersion: Dec-2005; PackageVersion: revA, Oct-2003; PackageReference: SDA10A; Publisher: Altium Limited; PackageDescription: LLP, Plastic, Dual, 3 x 3 x 0.8mm Body, 10 Lead, 0.5mm Pitch, No Pullback; RoHS: Y; PinCount: 10; DigiKeyPartNumber: LM2750SD-ADJCT-ND; ComponentLink1Description: LM2750 Datasheet; ComponentLink1URL: http://www.national.com/ds/LM/LM2750.pdf; ComponentLink2Description: LM2750 Web Page; ComponentLink2URL: http://www.national.com/pf/LM/LM2750.html; ComponentLink3Description: SDA10A Package Drawing; ComponentLink3URL: http://www.national.com/packaging/folders/sda10a.html
footprint SDA10A (SON, 10-Leads, Body 3x3 mm, Pitch 0.5mm, NSC Recommended)
pins: 1 OUT (power), 2 OUT (power), 3 FB (in), 4 ~{SD} (in), 5 GND (power), 6 GND (power), 7 C1- (in), 8 VIN (power), 9 VIN (power), 10 C1+ (in), 11 DAP (power)

## LM2751SD-A
designator U?
Regulated 2X, 1.5X Switched Capacitor White LED Driver; PartNumber: LM2751SD-A; Manufacturer: National Semiconductor; CompType: Switcher; PackageTopMarking: ZXYTT*L145B; FirstPublished: 4-Dec-2008; DatasheetVersion: Apr-2005; PackageVersion: revA, Oct-2003; PackageReference: SDA10A; Publisher: Altium Limited; PackageDescription: LLP, Plastic, Dual, 3 x 3 x 0.8mm Body, 10 Lead, 0.5mm Pitch, No Pullback; RoHS: Y; PinCount: 10; DigiKeyPartNumber: LM2751SD-ACT-ND; ComponentLink1Description: LM2751 Datasheet; ComponentLink1URL: http://www.national.com/ds/LM/LM2751.pdf; ComponentLink2Description: LM2751 Web Page; ComponentLink2URL: http://www.national.com/pf/LM/LM2751.html; ComponentLink3Description: SDA10A Package Drawing; ComponentLink3URL: http://www.national.com/packaging/folders/sda10a.html
footprint SDA10A (SON, 10-Leads, Body 3x3 mm, Pitch 0.5mm, NSC Recommended)
pins: 1 OUT (power), 2 C1+ (in), 3 VIN (power), 4 CS0 (in), 5 CS1 (in), 6 EN (in), 7 C2- (in), 8 GND (power), 9 C1- (in), 10 C2+ (in), 11 DAP (power)

## LM2751SD-B
designator U?
Regulated 2X, 1.5X Switched Capacitor White LED Driver; PartNumber: LM2751SD-B; Manufacturer: National Semiconductor; CompType: Switcher; PackageTopMarking: ZXYTT*L146B; FirstPublished: 4-Dec-2008; DatasheetVersion: Apr-2005; PackageVersion: revA, Oct-2003; PackageReference: SDA10A; Publisher: Altium Limited; PackageDescription: LLP, Plastic, Dual, 3 x 3 x 0.8mm Body, 10 Lead, 0.5mm Pitch, No Pullback; RoHS: Y; PinCount: 10; DigiKeyPartNumber: LM2751SD-BCT-ND; ComponentLink1Description: LM2751 Datasheet; ComponentLink1URL: http://www.national.com/ds/LM/LM2751.pdf; ComponentLink2Description: LM2751 Web Page; ComponentLink2URL: http://www.national.com/pf/LM/LM2751.html; ComponentLink3Description: SDA10A Package Drawing; ComponentLink3URL: http://www.national.com/packaging/folders/sda10a.html
footprint SDA10A (SON, 10-Leads, Body 3x3 mm, Pitch 0.5mm, NSC Recommended)
pins: 1 OUT (power), 2 C1+ (in), 3 VIN (power), 4 CS0 (in), 5 CS1 (in), 6 EN (in), 7 C2- (in), 8 GND (power), 9 C1- (in), 10 C2+ (in), 11 DAP (power)

## LM2753SD
designator U?
High Power Switched Capacitor Voltage Convertor/Flash LED Driver; PartNumber: LM2753SD; Manufacturer: National Semiconductor; CompType: Switcher; PackageTopMarking: ZXYTT*D004B; FirstPublished: 4-Dec-2008; DatasheetVersion: Nov-2006; PackageVersion: revA, Oct-2003; PackageReference: SDA10A; Publisher: Altium Limited; PackageDescription: LLP, Plastic, Dual, 3 x 3 x 0.8mm Body, 10 Lead, 0.5mm Pitch, No Pullback; RoHS: Y; PinCount: 10; DigiKeyPartNumber: LM2753SDCT-ND; ComponentLink1Description: LM2753 Datasheet; ComponentLink1URL: http://www.national.com/ds/LM/LM2753.pdf; ComponentLink2Description: LM2753 Web Page; ComponentLink2URL: http://www.national.com/pf/LM/LM2753.html; ComponentLink3Description: SDA10A Package Drawing; ComponentLink3URL: http://www.national.com/packaging/folders/sda10a.html
footprint SDA10A (SON, 10-Leads, Body 3x3 mm, Pitch 0.5mm, NSC Recommended)
pins: 1 C1+ (in), 2 VIN (power), 3 C1- (in), 4 FLASH (in), 5 GND (power), 6 EN (in), 7 GND (power), 8 IOUT (power), 9 VOUT (power), 10 GND (power), 11 DAP (power)

## LM2754SQ
designator U?
800mA Switched Capacitor Flash LED Driver with Time-Out Protection; PartNumber: LM2754SQ; Manufacturer: National Semiconductor; CompType: Switcher; PackageTopMarking: NS*UZXYTT*LM2754; FirstPublished: 4-Dec-2008; DatasheetVersion: Sep-2006; PackageVersion: revB, Aug-2003; PackageReference: SQA24A; Publisher: Altium Limited; PackageDescription: LLP, Plastic, Quad, 4 x 4 x 0.8mm Body, 24 Lead, 0.5mm Pitch, No Pullback; RoHS: Y; PinCount: 24; DigiKeyPartNumber: LM2754SQCT-ND; Code_JEDEC: MO-220-WGGD-6; ComponentLink1Description: LM2754 Datasheet; ComponentLink1URL: http://www.national.com/ds/LM/LM2754.pdf; ComponentLink2Description: LM2754 Web Page; ComponentLink2URL: http://www.national.com/pf/LM/LM2754.html; ComponentLink3Description: SQA24A Package Drawing; ComponentLink3URL: http://www.national.com/packaging/folders/sqa24a.html
footprint SQA24A (QFN, 24-Leads, Body 4x4mm, Pitch 0.5mm, NSC Recommended)
pins: 1 C1+ (in), 2 C1- (in), 3 GNDSW (power), 4 NC, 5 C2- (in), 6 NC, 7 C2+ (in), 8 VOUT (power), 9 GND (power), 10 ISET1 (in), 11 ISET2 (in), 12 D1 (oc), 13 D2 (oc), 14 D3 (oc), 15 D4 (oc), 16 GND (power), 17 GND (power), 18 SEL (in), 19 TX (in), 20 T/F (in), 21 EN (in), 22 VIN (power), 23 VINSW (power), 24 VINSW (power), 25 DAP (power)

## LM2755TM
designator U?
Charge Pump LED Controller with I2C Compatible Interface in Micro SMD; PartNumber: LM2755TM; Manufacturer: National Semiconductor; CompType: Switcher; PackageTopMarking: XYTT*I D32; FirstPublished: 4-Dec-2008; DatasheetVersion: Oct-2006; PackageVersion: revC, 2007; PackageReference: TMD18AAA; Publisher: Altium Limited; PackageDescription: Thin Micro SMD, 18 Bump, 0.4mm Pitch; RoHS: Y; PinCount: 18; DigiKeyPartNumber: LM2755TMCT-ND; ComponentLink1Description: LM2755 Datasheet; ComponentLink1URL: http://www.national.com/ds/LM/LM2755.pdf; ComponentLink2Description: LM2755 Web Page; ComponentLink2URL: http://www.national.com/pf/LM/LM2755.html; ComponentLink3Description: TMD18AAA Package Drawing; ComponentLink3URL: http://www.national.com/packaging/folders/tmd18aaa.html
footprint TMD18AAA (Micro SMD, 18-Leads, Body 1.81x1.62mm, Pitch 0.4mm, NSC Recommended)
pins: A1 ID1 (oc), A3 ID2 (oc), A5 ID3 (oc), A7 SYNC (in), B2 ISET (in), B4 HWEN (in), B6 SDIO (io), C1 VIN (power), C3 GND (power), C5 VIO (in), C7 SCL (in), D2 POUT (power), D4 C2- (in), D6 GND (power), E1 C1+ (in), E3 C2+ (in), E5 C1- (in), E7 ADDR (in)

## LM2756TM
designator U?
Multi-Display Inductorless LED Driver with 32 Exponential Dimming Steps in Micro SMD; PartNumber: LM2756TM; Manufacturer: National Semiconductor; CompType: Switcher; PackageTopMarking: XYTT*I DK; FirstPublished: 4-Dec-2008; DatasheetVersion: Dec-2007; PackageVersion: revD, 2007; PackageReference: TMD20AAA; Publisher: Altium Limited; PackageDescription: Thin Micro SMD, 20 Bump, 0.4mm Pitch; RoHS: Y; PinCount: 20; DigiKeyPartNumber: LM2756TMCT-ND; ComponentLink1Description: LM2756 Datasheet; ComponentLink1URL: http://www.national.com/ds/LM/LM2756.pdf; ComponentLink2Description: LM2756 Web Page; ComponentLink2URL: http://www.national.com/pf/LM/LM2756.html; ComponentLink3Description: TMD20AAA Package Drawing; ComponentLink3URL: http://www.national.com/packaging/folders/tmd20aaa.html
footprint TMD20AAA (Micro SMD, 20-Leads, Body 2.02x1.62mm, Pitch 0.4mm, NSC Recommended)
pins: A1 C1+ (in), A2 VOUT (power), A3 VIN (power), A4 GND (power), B1 C2+ (in), B2 C2- (in), B3 D1B (oc), B4 D62 (oc), C1 C1- (in), C2 SDIO (io), C3 D1C (oc), C4 D53 (oc), D1 GND (power), D2 ISET (in), D3 D1A (oc), D4 D4A (oc), E1 HWEN (in), E2 SCL (in), E3 D2A (oc), E4 D3A (oc)

## LM2757TM
designator U?
Switched Capacitor Boost Regulator with High Impedance Output in Shutdown; PartNumber: LM2757TM; Manufacturer: National Semiconductor; CompType: Switcher; PackageTopMarking: XV*I DL; FirstPublished: 4-Dec-2008; DatasheetVersion: Dec-2007; PackageVersion: revA, 2008; PackageReference: TMD12AAA; Publisher: Altium Limited; PackageDescription: Thin Micro SMD, 12 Bump, 0.4mm Pitch; RoHS: Y; PinCount: 12; DigiKeyPartNumber: LM2757TMCT-ND; ComponentLink1Description: LM2757 Datasheet; ComponentLink1URL: http://www.national.com/ds/LM/LM2757.pdf; ComponentLink2Description: LM2757 Web Page; ComponentLink2URL: http://www.national.com/pf/LM/LM2757.html; ComponentLink3Description: TMD12AAA Package Drawing; ComponentLink3URL: http://www.national.com/packaging/folders/tmd12aaa.html
footprint TMD12AAA (Micro SMD, 12-Leads, Body 1.62x1.22mm, Pitch 0.4mm, NSC Recommended)
pins: A1 C2+ (in), A2 OUT (power), A3 C1+ (in), B1 C1- (in), B2 VIN (power), B3 VIN (power), C1 GND (power), C2 GND (power), C3 C2- (in), D1 NC, D2 M1 (in), D3 M0 (in)

## LM2758TL
designator U?
Switched Capacitor Flash LED Driver in Micro SMD; PartNumber: LM2758TL; Manufacturer: National Semiconductor; CompType: Switcher; PackageTopMarking: XYTT*I 2758; FirstPublished: 4-Dec-2008; DatasheetVersion: Apr-2008; PackageVersion: revC, Jan-2004; PackageReference: TLA12AAA; Publisher: Altium Limited; PackageDescription: Thin Micro SMD, 12 Bump (Large), Area Array, 0.5mm Pitch; RoHS: Y; PinCount: 12; DigiKeyPartNumber: LM2758TLCT-ND; Code_JEDEC: MO-211-DE; ComponentLink1Description: LM2758 Datasheet; ComponentLink1URL: http://www.national.com/ds/LM/LM2758.pdf; ComponentLink2Description: LM2758 Web Page; ComponentLink2URL: http://www.national.com/pf/LM/LM2758.html; ComponentLink3Description: TLA12AAA Package Drawing; ComponentLink3URL: http://www.national.com/packaging/folders/tla12aaa.html
footprint TLA12AAA (Micro SMD, 12-Leads, Body 2.0x1.52mm, Pitch 0.5mm, NSC Recommended)
pins: A1 EN1 (in), A2 SGND (power), A3 ISET (in), B1 C1+ (in), B2 CPOUT (power), B3 EN2 (in), C1 VIN (power), C2 C2+ (in), C3 LED- (oc), D1 C2- (in), D2 C1- (in), D3 PGND (power)

## LM2771SD
designator U?
Low-Ripple 250mA Switched Capacitor Step-Down DC/DC Converter; PartNumber: LM2771SD; Manufacturer: National Semiconductor; CompType: Switcher; PackageTopMarking: ZXYTT*L2771; FirstPublished: 4-Dec-2008; DatasheetVersion: Mar-2006; PackageVersion: revA, Oct-2003; PackageReference: SDA10A; Publisher: Altium Limited; PackageDescription: LLP, Plastic, Dual, 3 x 3 x 0.8mm Body, 10 Lead, 0.5mm Pitch, No Pullback; RoHS: Y; PinCount: 10; DigiKeyPartNumber: LM2771SDCT-ND; ComponentLink1Description: LM2771 Datasheet; ComponentLink1URL: http://www.national.com/ds/LM/LM2771.pdf; ComponentLink2Description: LM2771 Web Page; ComponentLink2URL: http://www.national.com/pf/LM/LM2771.html; ComponentLink3Description: SDA10A Package Drawing; ComponentLink3URL: http://www.national.com/packaging/folders/sda10a.html
footprint SDA10A (SON, 10-Leads, Body 3x3 mm, Pitch 0.5mm, NSC Recommended)
pins: 1 VIN (power), 2 GND (power), 3 VOUT (power), 4 NC, 5 NC, 6 C1- (in), 7 C1+ (in), 8 NC, 9 GND (power), 10 EN (in), 11 DAP (power)

## LM2772SD
designator U?
Low-Ripple Switched Capacitor Step-Down Regulator; PartNumber: LM2772SD; Manufacturer: National Semiconductor; CompType: Switcher; PackageTopMarking: ZXYTT*L2772; FirstPublished: 4-Dec-2008; DatasheetVersion: Dec-2006; PackageVersion: revA, Oct-2003; PackageReference: SDA10A; Publisher: Altium Limited; PackageDescription: LLP, Plastic, Dual, 3 x 3 x 0.8mm Body, 10 Lead, 0.5mm Pitch, No Pullback; RoHS: Y; PinCount: 10; DigiKeyPartNumber: LM2772SDCT-ND; ComponentLink1Description: LM2772 Datasheet; ComponentLink1URL: http://www.national.com/ds/LM/LM2772.pdf; ComponentLink2Description: LM2772 Web Page; ComponentLink2URL: http://www.national.com/pf/LM/LM2772.html; ComponentLink3Description: SDA10A Package Drawing; ComponentLink3URL: http://www.national.com/packaging/folders/sda10a.html
footprint SDA10A (SON, 10-Leads, Body 3x3 mm, Pitch 0.5mm, NSC Recommended)
pins: 1 VIN (power), 2 GND (power), 3 OUT (power), 4 C3- (in), 5 C3+ (in), 6 C2- (in), 7 C2+ (in), 8 C1- (in), 9 C1+ (in), 10 EN (in), 11 DAP (power)

## LM2773TL
designator U?
Low-Ripple 1.8V/1.6V Spread-Spectrum Switched Capacitor Step-Down Regulator; PartNumber: LM2773TL; Manufacturer: National Semiconductor; CompType: Switcher; PackageTopMarking: XV*I DJ; FirstPublished: 4-Dec-2008; DatasheetVersion: Jan-2008; PackageVersion: revC, Jan-2004; PackageReference: TLA09ZZA; Publisher: Altium Limited; PackageDescription: Thin Micro SMD, 9 Bump (Large), 0.5mm Pitch; RoHS: Y; PinCount: 9; DigiKeyPartNumber: LM2773TL-ND; Code_JEDEC: MO-211-DD; ComponentLink1Description: LM2773 Datasheet; ComponentLink1URL: http://www.national.com/ds/LM/LM2773.pdf; ComponentLink2Description: LM2773 Web Page; ComponentLink2URL: http://www.national.com/pf/LM/LM2773.html; ComponentLink3Description: TLA09ZZA Package Drawing; ComponentLink3URL: http://www.national.com/packaging/folders/tla09zza.html
footprint TLA09ZZA (Micro SMD, 9-Leads, Body 1.47x1.47mm, Pitch 0.5mm, NSC Recommended)
pins: A1 C2- (in), A2 OUT (power), A3 C1+ (in), B1 GND (power), B2 EN (in), B3 VIN (power), C1 SEL (in), C2 C1- (in), C3 C2+ (in)

## LM2788MM-1.8
designator U?
120mA High Efficiency Step-Down Switched Capacitor Voltage Converter; PartNumber: LM2788MM-1.8; Manufacturer: National Semiconductor; CompType: Switcher; PackageTopMarking: ZXTT*S23B; FirstPublished: 4-Dec-2008; DatasheetVersion: Oct-2002; PackageVersion: revF, Apr-2008; PackageReference: MUA08A; Publisher: Altium Limited; PackageDescription: MINI SOIC, .118 x .118 x .034in, 8 Lead, .0256in Pitch; RoHS: Y; PinCount: 8; DigiKeyPartNumber: LM2788MM-1.8CT-ND; Code_JEDEC: MO-187-AA; ComponentLink1Description: LM2788 Datasheet; ComponentLink1URL: http://www.national.com/ds/LM/LM2788.pdf; ComponentLink2Description: LM2788 Web Page; ComponentLink2URL: http://www.national.com/pf/LM/LM2788.html; ComponentLink3Description: MUA08A Package Drawing; ComponentLink3URL: http://www.national.com/packaging/folders/mua08a.html
footprint MUA08A_N (TSOP, 8-Leads, Body 3x3mm, Pitch 0.65mm, IPC Medium Density)
footprint MUA08A_L (TSOP, 8-Leads, Body 3x3mm, Pitch 0.65mm, IPC High Density)
footprint MUA08A_M (TSOP, 8-Leads, Body 3x3mm, Pitch 0.65mm, IPC Low Density)
pins: 1 OUT (power), 2 C1- (in), 3 C1+ (in), 4 VIN (power), 5 EN (in), 6 C2+ (in), 7 GND (power), 8 C2- (in)

## LM2794TL
designator U?
Current Regulated Switched Capacitor LED Supply with Analog and PWM Brightness Control; PartNumber: LM2794TL; Manufacturer: National Semiconductor; CompType: Switcher; PackageTopMarking: XYTT*I LOG; FirstPublished: 4-Dec-2008; DatasheetVersion: Mar-2004; PackageVersion: revC, Mar-2004; PackageReference: TLP14EHA; Publisher: Altium Limited; PackageDescription: Thin Micro SMD, 14 Bump (Large), Peripheral, 0.5mm Pitch; RoHS: Y; PinCount: 14; DigiKeyPartNumber: LM2794TLCT-ND; ComponentLink1Description: LM2794 Datasheet; ComponentLink1URL: http://www.national.com/ds/LM/LM2794.pdf; ComponentLink2Description: LM2794 Web Page; ComponentLink2URL: http://www.national.com/pf/LM/LM2794.html; ComponentLink3Description: TLP14EHA Package Drawing; ComponentLink3URL: http://www.national.com/packaging/folders/tlp14eha.html
footprint TLP14EHA (Micro SMD, 14-Leads, Body 2.4x2.1mm, Pitch 0.5mm, NSC Recommended)
pins: A1 C1+ (in), A3 POUT (power), A5 C2+ (in), A7 ~{SD} (in), B2 C1- (in), B6 BRGT (in), C1 VIN (power), C7 ISET (in), D2 GND (power), D6 D4 (oc), E1 C2- (in), E3 D1 (oc), E5 D2 (oc), E7 D3 (oc)

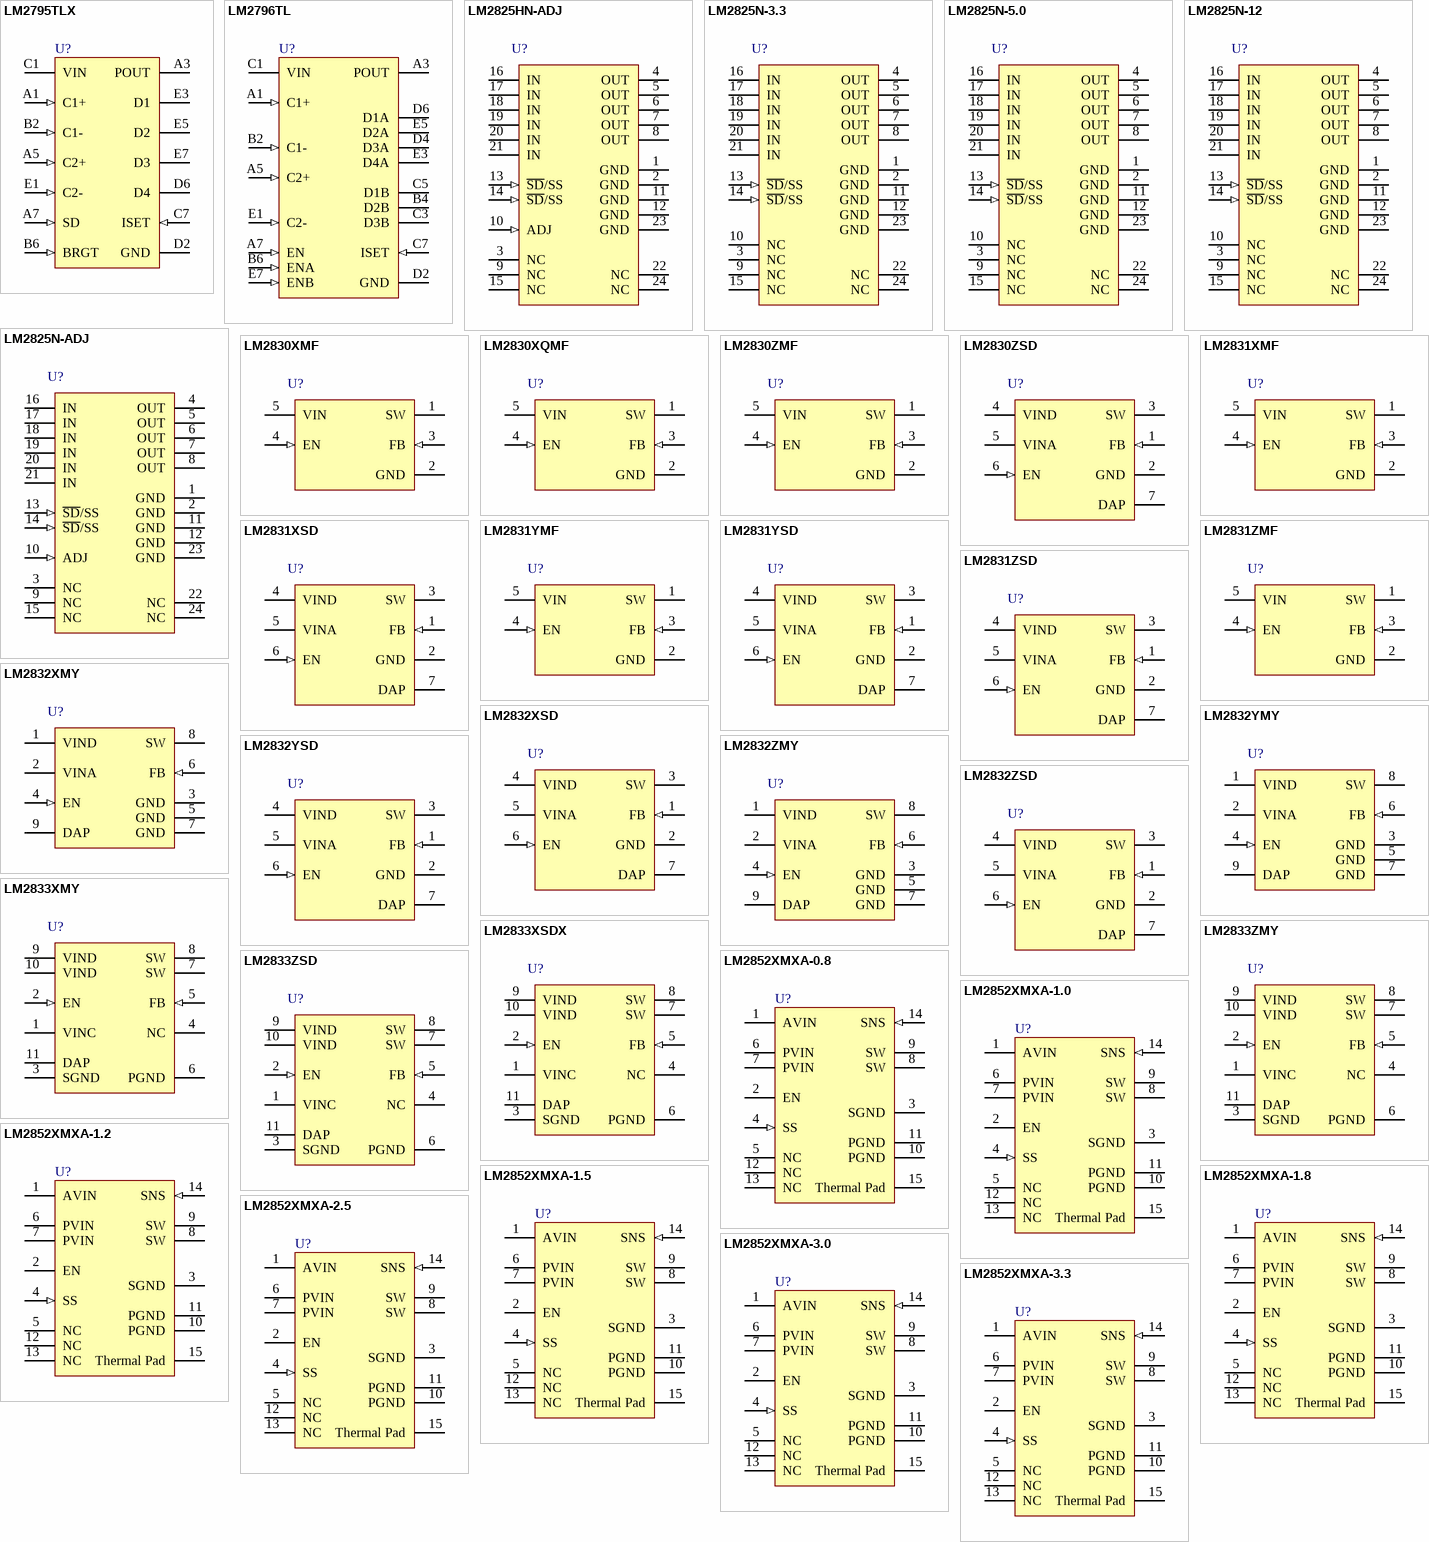
[diagram p12: symbols LM2795TLX to LM2852XMXA-3.3]